# EAGLE library part PICOLOCK_10 (library template_board)
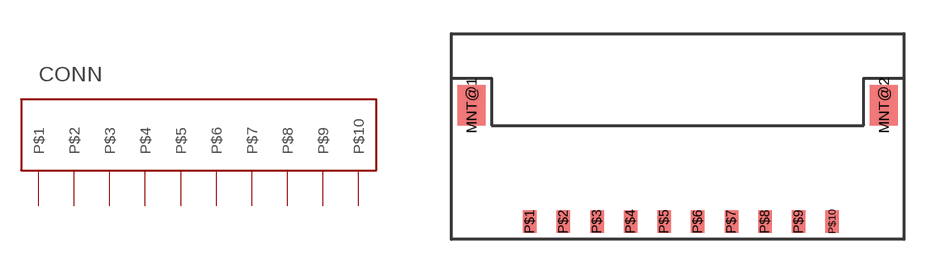
[diagram p19: symbol with the pads of PICOLOCK_10; footprint PICOLOCK_10]

Designator prefix CONN

## PICOLOCK_10PICOLOCK_10  [PICOLOCK_10]
P$1  P$1
P$2  P$2
P$3  P$3
P$4  P$4
P$5  P$5
P$6  P$6
P$7  P$7
P$8  P$8
P$9  P$9
P$10  P$10

## Footprint PICOLOCK_10 (pad centres in mm)
smd 1.25 x 1.8: MNT@1 -2.605,5.2; MNT@2 15.805,5.2
smd 0.6 x 1: P$1 0,0; P$2 1.5,0; P$3 3,0; P$4 4.5,0; P$5 6,0; P$6 7.5,0; P$7 9,0; P$8 10.5,0; P$9 12,0; P$10 13.5,0